# EAGLE library part TMP302 (library texas)
TEMP SWITCH
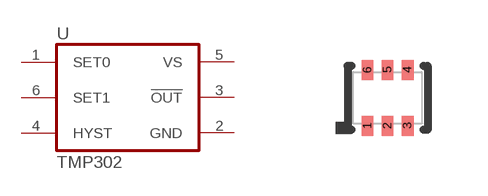
[diagram p66: symbol with the pads of SOT563; footprint SOT563]

Designator prefix U

## TMP302  [SOT563]
1  SET0
2  GND  pwr
3  !OUT!  out
4  HYST  in
5  VS  pwr
6  SET1

## Footprint SOT563 (pad centres in mm)
SOT-563 DRL (R-PDSO-N6)
smd 0.3 x 0.5: 1 -0.5,-0.7; 2 0,-0.7; 3 0.5,-0.7; 4 0.5,0.7; 5 0,0.7; 6 -0.5,0.7